# Altium integrated library Altium_WCAP-ASLL (rev24b).IntLib: 98 symbols (part 1 of 2)
Pins are listed as number, name and electrical type; pins without a type are passive.

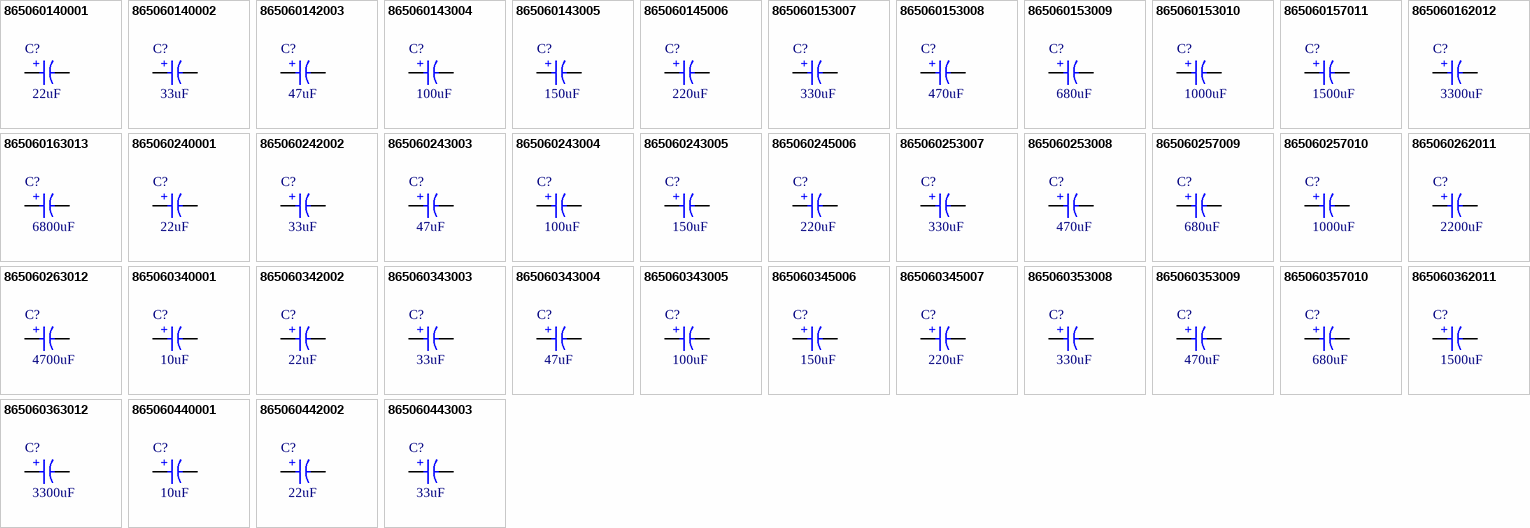
[diagram p0: symbols 865060140001 to 865060443003]

## 865060140001
designator C?, comment 22uF
WCAP-ASLL Aluminum Electrolytic Capacitor, V-Chip, SMT, D4 x H5.5mm, 22uF, 6.3V; Manufacturer Part Number: 865060140001; Manufacturer: Wurth Elektronik; Capacitance Tolerance: +/-20%; Dissipation Factor: 22%; Endurance: 2000h; Leakage Current: 3uA; Ripple Current: 80mA; Technical Reference: ASEB055220M6R3DVCTAB000; Category: Aluminum Electrolytic Capacitors; Match Code: WCAP-ASLL; ComponentLink1Description: Website Link; ComponentLink1URL: https://www.we-online.com/redexpert/article/865060140001?ad; ComponentLink2Description: Datasheet Link; ComponentLink2URL: https://www.we-online.com/redexpert/spec/865060140001?ad; Mount: Surface Mount; Operating Temperature Max: 105°C; Operating Temperature Min: -55°C; Packaging: Tape and Reel; Height: 5.5mm; Diameter: 4mm; Capacitance: 22uF; Rated Voltage (DC): 6.3V
footprint WCAP-ASLL_D4H5.5
simulation model 865060140001_22uF
pins: 1 P, 2 N
text: +

## 865060140002
designator C?, comment 33uF
WCAP-ASLL Aluminum Electrolytic Capacitor, V-Chip, SMT, D4 x H5.5mm, 33uF, 6.3V; Manufacturer Part Number: 865060140002; Manufacturer: Wurth Elektronik; Capacitance Tolerance: +/-20%; Dissipation Factor: 22%; Endurance: 2000h; Leakage Current: 3uA; Ripple Current: 85mA; Technical Reference: ASEB055330M6R3DVCTAB000; Category: Aluminum Electrolytic Capacitors; Match Code: WCAP-ASLL; ComponentLink1Description: Website Link; ComponentLink1URL: https://www.we-online.com/redexpert/article/865060140002?ad; ComponentLink2Description: Datasheet Link; ComponentLink2URL: https://www.we-online.com/redexpert/spec/865060140002?ad; Mount: Surface Mount; Operating Temperature Max: 105°C; Operating Temperature Min: -55°C; Packaging: Tape and Reel; Height: 5.5mm; Diameter: 4mm; Capacitance: 33uF; Rated Voltage (DC): 6.3V
footprint WCAP-ASLL_D4H5.5
simulation model 865060140002_33uF
pins: 1 P, 2 N
text: +

## 865060142003
designator C?, comment 47uF
WCAP-ASLL Aluminum Electrolytic Capacitor, V-Chip, SMT, D5 x H5.5mm, 47uF, 6.3V; Manufacturer Part Number: 865060142003; Manufacturer: Wurth Elektronik; Capacitance Tolerance: +/-20%; Dissipation Factor: 22%; Endurance: 2000h; Leakage Current: 3uA; Ripple Current: 160mA; Technical Reference: ASEC055470M6R3DVCTBB000; Category: Aluminum Electrolytic Capacitors; Match Code: WCAP-ASLL; ComponentLink1Description: Website Link; ComponentLink1URL: https://www.we-online.com/redexpert/article/865060142003?ad; ComponentLink2Description: Datasheet Link; ComponentLink2URL: https://www.we-online.com/redexpert/spec/865060142003?ad; Mount: Surface Mount; Operating Temperature Max: 105°C; Operating Temperature Min: -55°C; Packaging: Tape and Reel; Height: 5.5mm; Diameter: 5mm; Capacitance: 47uF; Rated Voltage (DC): 6.3V
footprint WCAP-ASLL_D5H5.5
simulation model 865060142003_47uF
pins: 1 P, 2 N
text: +

## 865060143004
designator C?, comment 100uF
WCAP-ASLL Aluminum Electrolytic Capacitor, V-Chip, SMT, D6.3 x H5.5mm, 100uF, 6.3V; Manufacturer Part Number: 865060143004; Manufacturer: Wurth Elektronik; Capacitance Tolerance: +/-20%; Dissipation Factor: 22%; Endurance: 2000h; Leakage Current: 6.3uA; Ripple Current: 240mA; Technical Reference: ASED055101M6R3DVCTBB000; Category: Aluminum Electrolytic Capacitors; Match Code: WCAP-ASLL; ComponentLink1Description: Website Link; ComponentLink1URL: https://www.we-online.com/redexpert/article/865060143004?ad; ComponentLink2Description: Datasheet Link; ComponentLink2URL: https://www.we-online.com/redexpert/spec/865060143004?ad; Mount: Surface Mount; Operating Temperature Max: 105°C; Operating Temperature Min: -55°C; Packaging: Tape and Reel; Height: 5.5mm; Diameter: 6.3mm; Capacitance: 100uF; Rated Voltage (DC): 6.3V
footprint WCAP-ASLL_D6.3H5.5
simulation model 865060143004_100uF
pins: 1 P, 2 N
text: +

## 865060143005
designator C?, comment 150uF
WCAP-ASLL Aluminum Electrolytic Capacitor, V-Chip, SMT, D6.3 x H5.5mm, 150uF, 6.3V; Manufacturer Part Number: 865060143005; Manufacturer: Wurth Elektronik; Capacitance Tolerance: +/-20%; Dissipation Factor: 22%; Endurance: 2000h; Leakage Current: 9.45uA; Ripple Current: 240mA; Technical Reference: ASED055151M6R3DVCTBB000; Category: Aluminum Electrolytic Capacitors; Match Code: WCAP-ASLL; ComponentLink1Description: Website Link; ComponentLink1URL: https://www.we-online.com/redexpert/article/865060143005?ad; ComponentLink2Description: Datasheet Link; ComponentLink2URL: https://www.we-online.com/redexpert/spec/865060143005?ad; Mount: Surface Mount; Operating Temperature Max: 105°C; Operating Temperature Min: -55°C; Packaging: Tape and Reel; Height: 5.5mm; Diameter: 6.3mm; Capacitance: 150uF; Rated Voltage (DC): 6.3V
footprint WCAP-ASLL_D6.3H5.5
simulation model 865060143005_150uF
pins: 1 P, 2 N
text: +

## 865060145006
designator C?, comment 220uF
WCAP-ASLL Aluminum Electrolytic Capacitor, V-Chip, SMT, D6.3 x H7.7mm, 220uF, 6.3V; Manufacturer Part Number: 865060145006; Manufacturer: Wurth Elektronik; Capacitance Tolerance: +/-20%; Dissipation Factor: 22%; Endurance: 2000h; Leakage Current: 13.86uA; Ripple Current: 280mA; Technical Reference: ASED077221M6R3DVCTCB000; Category: Aluminum Electrolytic Capacitors; Match Code: WCAP-ASLL; ComponentLink1Description: Website Link; ComponentLink1URL: https://www.we-online.com/redexpert/article/865060145006?ad; ComponentLink2Description: Datasheet Link; ComponentLink2URL: https://www.we-online.com/redexpert/spec/865060145006?ad; Mount: Surface Mount; Operating Temperature Max: 105°C; Operating Temperature Min: -55°C; Packaging: Tape and Reel; Height: 7.7mm; Diameter: 6.3mm; Capacitance: 220uF; Rated Voltage (DC): 6.3V
footprint WCAP-ASLL_D6.3H7.7
simulation model 865060145006_220uF
pins: 1 P, 2 N
text: +

## 865060153007
designator C?, comment 330uF
WCAP-ASLL Aluminum Electrolytic Capacitor, V-Chip, SMT, D8 x H10.5mm, 330uF, 6.3V; Manufacturer Part Number: 865060153007; Manufacturer: Wurth Elektronik; Capacitance Tolerance: +/-20%; Dissipation Factor: 22%; Endurance: 5000h; Leakage Current: 20.79uA; Ripple Current: 450mA; Technical Reference: ASEE105331M6R3DVCTEE000; Category: Aluminum Electrolytic Capacitors; Match Code: WCAP-ASLL; ComponentLink1Description: Website Link; ComponentLink1URL: https://www.we-online.com/redexpert/article/865060153007?ad; ComponentLink2Description: Datasheet Link; ComponentLink2URL: https://www.we-online.com/redexpert/spec/865060153007?ad; Mount: Surface Mount; Operating Temperature Max: 105°C; Operating Temperature Min: -55°C; Packaging: Tape and Reel; Height: 10.5mm; Diameter: 8mm; Capacitance: 330uF; Rated Voltage (DC): 6.3V
footprint WCAP-ASLL_D8H10.5
simulation model 865060153007_330uF
pins: 1 P, 2 N
text: +

## 865060153008
designator C?, comment 470uF
WCAP-ASLL Aluminum Electrolytic Capacitor, V-Chip, SMT, D8 x H10.5mm, 470uF, 6.3V; Manufacturer Part Number: 865060153008; Manufacturer: Wurth Elektronik; Capacitance Tolerance: +/-20%; Dissipation Factor: 22%; Endurance: 5000h; Leakage Current: 29.61uA; Ripple Current: 500mA; Technical Reference: ASEE105471M6R3DVCTEE000; Category: Aluminum Electrolytic Capacitors; Match Code: WCAP-ASLL; ComponentLink1Description: Website Link; ComponentLink1URL: https://www.we-online.com/redexpert/article/865060153008?ad; ComponentLink2Description: Datasheet Link; ComponentLink2URL: https://www.we-online.com/redexpert/spec/865060153008?ad; Mount: Surface Mount; Operating Temperature Max: 105°C; Operating Temperature Min: -55°C; Packaging: Tape and Reel; Height: 10.5mm; Diameter: 8mm; Capacitance: 470uF; Rated Voltage (DC): 6.3V
footprint WCAP-ASLL_D8H10.5
simulation model 865060153008_470uF
pins: 1 P, 2 N
text: +

## 865060153009
designator C?, comment 680uF
WCAP-ASLL Aluminum Electrolytic Capacitor, V-Chip, SMT, D8 x H10.5mm, 680uF, 6.3V; Manufacturer Part Number: 865060153009; Manufacturer: Wurth Elektronik; Capacitance Tolerance: +/-20%; Dissipation Factor: 22%; Endurance: 5000h; Leakage Current: 42.84uA; Ripple Current: 550mA; Technical Reference: ASEE105681M6R3DVCTEE000; Category: Aluminum Electrolytic Capacitors; Match Code: WCAP-ASLL; ComponentLink1Description: Website Link; ComponentLink1URL: https://www.we-online.com/redexpert/article/865060153009?ad; ComponentLink2Description: Datasheet Link; ComponentLink2URL: https://www.we-online.com/redexpert/spec/865060153009?ad; Mount: Surface Mount; Operating Temperature Max: 105°C; Operating Temperature Min: -55°C; Packaging: Tape and Reel; Height: 10.5mm; Diameter: 8mm; Capacitance: 680uF; Rated Voltage (DC): 6.3V
footprint WCAP-ASLL_D8H10.5
simulation model 865060153009_680uF
pins: 1 P, 2 N
text: +

## 865060153010
designator C?, comment 1000uF
WCAP-ASLL Aluminum Electrolytic Capacitor, V-Chip, SMT, D8 x H10.5mm, 1000uF, 6.3V; Manufacturer Part Number: 865060153010; Manufacturer: Wurth Elektronik; Capacitance Tolerance: +/-20%; Dissipation Factor: 22%; Endurance: 5000h; Leakage Current: 63uA; Ripple Current: 550mA; Technical Reference: ASEE105102M6R3DVCTEE000; Category: Aluminum Electrolytic Capacitors; Match Code: WCAP-ASLL; ComponentLink1Description: Website Link; ComponentLink1URL: https://www.we-online.com/redexpert/article/865060153010?ad; ComponentLink2Description: Datasheet Link; ComponentLink2URL: https://www.we-online.com/redexpert/spec/865060153010?ad; Mount: Surface Mount; Operating Temperature Max: 105°C; Operating Temperature Min: -55°C; Packaging: Tape and Reel; Height: 10.5mm; Diameter: 8mm; Capacitance: 1000uF; Rated Voltage (DC): 6.3V
footprint WCAP-ASLL_D8H10.5
simulation model 865060153010_1mF
pins: 1 P, 2 N
text: +

## 865060157011
designator C?, comment 1500uF
WCAP-ASLL Aluminum Electrolytic Capacitor, V-Chip, SMT, D10 x H10.5mm, 1500uF, 6.3V; Manufacturer Part Number: 865060157011; Manufacturer: Wurth Elektronik; Capacitance Tolerance: +/-20%; Dissipation Factor: 22%; Endurance: 5000h; Leakage Current: 94.5uA; Ripple Current: 690mA; Technical Reference: ASEF105152M6R3DVCTEE000; Category: Aluminum Electrolytic Capacitors; Match Code: WCAP-ASLL; ComponentLink1Description: Website Link; ComponentLink1URL: https://www.we-online.com/redexpert/article/865060157011?ad; ComponentLink2Description: Datasheet Link; ComponentLink2URL: https://www.we-online.com/redexpert/spec/865060157011?ad; Mount: Surface Mount; Operating Temperature Max: 105°C; Operating Temperature Min: -55°C; Packaging: Tape and Reel; Height: 10.5mm; Diameter: 10mm; Capacitance: 1500uF; Rated Voltage (DC): 6.3V
footprint WCAP-ASLL_D10H10.5
simulation model 865060157011_1.5mF
pins: 1 P, 2 N
text: +

## 865060162012
designator C?, comment 3300uF
WCAP-ASLL Aluminum Electrolytic Capacitor, V-Chip, SMT, D12.5 x H14mm, 3300uF, 6.3V; Manufacturer Part Number: 865060162012; Manufacturer: Wurth Elektronik; Capacitance Tolerance: +/-20%; Dissipation Factor: 22%; Endurance: 5000h; Leakage Current: 207.9uA; Ripple Current: 1150mA; Technical Reference: ASEH140332M6R3DVCTGE000; Category: Aluminum Electrolytic Capacitors; Match Code: WCAP-ASLL; ComponentLink1Description: Website Link; ComponentLink1URL: https://www.we-online.com/redexpert/article/865060162012?ad; ComponentLink2Description: Datasheet Link; ComponentLink2URL: https://www.we-online.com/redexpert/spec/865060162012?ad; Mount: Surface Mount; Operating Temperature Max: 105°C; Operating Temperature Min: -55°C; Packaging: Tape and Reel; Height: 14mm; Diameter: 12.5mm; Capacitance: 3300uF; Rated Voltage (DC): 6.3V
footprint WCAP-ASLL_D12.5H14
simulation model 865060162012_3.3mF
pins: 1 P, 2 N
text: +

## 865060163013
designator C?, comment 6800uF
WCAP-ASLL Aluminum Electrolytic Capacitor, V-Chip, SMT, D16 x H17mm, 6800uF, 6.3V; Manufacturer Part Number: 865060163013; Manufacturer: Wurth Elektronik; Capacitance Tolerance: +/-20%; Dissipation Factor: 22%; Endurance: 5000h; Leakage Current: 428.4uA; Ripple Current: 1800mA; Technical Reference: ASEK170682M6R3DVCTHE000; Category: Aluminum Electrolytic Capacitors; Match Code: WCAP-ASLL; ComponentLink1Description: Website Link; ComponentLink1URL: https://www.we-online.com/redexpert/article/865060163013?ad; ComponentLink2Description: Datasheet Link; ComponentLink2URL: https://www.we-online.com/redexpert/spec/865060163013?ad; Mount: Surface Mount; Operating Temperature Max: 105°C; Operating Temperature Min: -55°C; Packaging: Tape and Reel; Height: 17mm; Diameter: 16mm; Capacitance: 6800uF; Rated Voltage (DC): 6.3V
footprint WCAP-ASLL_D16H17
simulation model 865060163013_6.8mF
pins: 1 P, 2 N
text: +

## 865060240001
designator C?, comment 22uF
WCAP-ASLL Aluminum Electrolytic Capacitor, V-Chip, SMT, D4 x H5.5mm, 22uF, 10V; Manufacturer Part Number: 865060240001; Manufacturer: Wurth Elektronik; Capacitance Tolerance: +/-20%; Dissipation Factor: 19%; Endurance: 2000h; Leakage Current: 3uA; Ripple Current: 90mA; Technical Reference: ASEB055220M010DVCTAB000; Category: Aluminum Electrolytic Capacitors; Match Code: WCAP-ASLL; ComponentLink1Description: Website Link; ComponentLink1URL: https://www.we-online.com/redexpert/article/865060240001?ad; ComponentLink2Description: Datasheet Link; ComponentLink2URL: https://www.we-online.com/redexpert/spec/865060240001?ad; Mount: Surface Mount; Operating Temperature Max: 105°C; Operating Temperature Min: -55°C; Packaging: Tape and Reel; Height: 5.5mm; Diameter: 4mm; Capacitance: 22uF; Rated Voltage (DC): 10V
footprint WCAP-ASLL_D4H5.5
simulation model 865060240001_22uF
pins: 1 P, 2 N
text: +

## 865060242002
designator C?, comment 33uF
WCAP-ASLL Aluminum Electrolytic Capacitor, V-Chip, SMT, D5 x H5.5mm, 33uF, 10V; Manufacturer Part Number: 865060242002; Manufacturer: Wurth Elektronik; Capacitance Tolerance: +/-20%; Dissipation Factor: 19%; Endurance: 2000h; Leakage Current: 3.3uA; Ripple Current: 160mA; Technical Reference: ASEC055330M010DVCTBB000; Category: Aluminum Electrolytic Capacitors; Match Code: WCAP-ASLL; ComponentLink1Description: Website Link; ComponentLink1URL: https://www.we-online.com/redexpert/article/865060242002?ad; ComponentLink2Description: Datasheet Link; ComponentLink2URL: https://www.we-online.com/redexpert/spec/865060242002?ad; Mount: Surface Mount; Operating Temperature Max: 105°C; Operating Temperature Min: -55°C; Packaging: Tape and Reel; Height: 5.5mm; Diameter: 5mm; Capacitance: 33uF; Rated Voltage (DC): 10V
footprint WCAP-ASLL_D5H5.5
simulation model 865060242002_33uF
pins: 1 P, 2 N
text: +

## 865060243003
designator C?, comment 47uF
WCAP-ASLL Aluminum Electrolytic Capacitor, V-Chip, SMT, D6.3 x H5.5mm, 47uF, 10V; Manufacturer Part Number: 865060243003; Manufacturer: Wurth Elektronik; Capacitance Tolerance: +/-20%; Dissipation Factor: 19%; Endurance: 2000h; Leakage Current: 4.7uA; Ripple Current: 230mA; Technical Reference: ASED055470M010DVCTBB000; Category: Aluminum Electrolytic Capacitors; Match Code: WCAP-ASLL; ComponentLink1Description: Website Link; ComponentLink1URL: https://www.we-online.com/redexpert/article/865060243003?ad; ComponentLink2Description: Datasheet Link; ComponentLink2URL: https://www.we-online.com/redexpert/spec/865060243003?ad; Mount: Surface Mount; Operating Temperature Max: 105°C; Operating Temperature Min: -55°C; Packaging: Tape and Reel; Height: 5.5mm; Diameter: 6.3mm; Capacitance: 47uF; Rated Voltage (DC): 10V
footprint WCAP-ASLL_D6.3H5.5
simulation model 865060243003_47uF
pins: 1 P, 2 N
text: +

## 865060243004
designator C?, comment 100uF
WCAP-ASLL Aluminum Electrolytic Capacitor, V-Chip, SMT, D6.3 x H5.5mm, 100uF, 10V; Manufacturer Part Number: 865060243004; Manufacturer: Wurth Elektronik; Capacitance Tolerance: +/-20%; Dissipation Factor: 19%; Endurance: 2000h; Leakage Current: 10uA; Ripple Current: 240mA; Technical Reference: ASED055101M010DVCTBB000; Category: Aluminum Electrolytic Capacitors; Match Code: WCAP-ASLL; ComponentLink1Description: Website Link; ComponentLink1URL: https://www.we-online.com/redexpert/article/865060243004?ad; ComponentLink2Description: Datasheet Link; ComponentLink2URL: https://www.we-online.com/redexpert/spec/865060243004?ad; Mount: Surface Mount; Operating Temperature Max: 105°C; Operating Temperature Min: -55°C; Packaging: Tape and Reel; Height: 5.5mm; Diameter: 6.3mm; Capacitance: 100uF; Rated Voltage (DC): 10V
footprint WCAP-ASLL_D6.3H5.5
simulation model 865060243004_100uF
pins: 1 P, 2 N
text: +

## 865060243005
designator C?, comment 150uF
WCAP-ASLL Aluminum Electrolytic Capacitor, V-Chip, SMT, D6.3 x H5.5mm, 150uF, 10V; Manufacturer Part Number: 865060243005; Manufacturer: Wurth Elektronik; Capacitance Tolerance: +/-20%; Dissipation Factor: 19%; Endurance: 2000h; Leakage Current: 15uA; Ripple Current: 250mA; Technical Reference: ASED055151M010DVCTBB000; Category: Aluminum Electrolytic Capacitors; Match Code: WCAP-ASLL; ComponentLink1Description: Website Link; ComponentLink1URL: https://www.we-online.com/redexpert/article/865060243005?ad; ComponentLink2Description: Datasheet Link; ComponentLink2URL: https://www.we-online.com/redexpert/spec/865060243005?ad; Mount: Surface Mount; Operating Temperature Max: 105°C; Operating Temperature Min: -55°C; Packaging: Tape and Reel; Height: 5.5mm; Diameter: 6.3mm; Capacitance: 150uF; Rated Voltage (DC): 10V
footprint WCAP-ASLL_D6.3H5.5
simulation model 865060243005_150uF
pins: 1 P, 2 N
text: +

## 865060245006
designator C?, comment 220uF
WCAP-ASLL Aluminum Electrolytic Capacitor, V-Chip, SMT, D6.3 x H7.7mm, 220uF, 10V; Manufacturer Part Number: 865060245006; Manufacturer: Wurth Elektronik; Capacitance Tolerance: +/-20%; Dissipation Factor: 19%; Endurance: 2000h; Leakage Current: 22uA; Ripple Current: 300mA; Technical Reference: ASED077221M010DVCTCB000; Category: Aluminum Electrolytic Capacitors; Match Code: WCAP-ASLL; ComponentLink1Description: Website Link; ComponentLink1URL: https://www.we-online.com/redexpert/article/865060245006?ad; ComponentLink2Description: Datasheet Link; ComponentLink2URL: https://www.we-online.com/redexpert/spec/865060245006?ad; Mount: Surface Mount; Operating Temperature Max: 105°C; Operating Temperature Min: -55°C; Packaging: Tape and Reel; Height: 7.7mm; Diameter: 6.3mm; Capacitance: 220uF; Rated Voltage (DC): 10V
footprint WCAP-ASLL_D6.3H7.7
simulation model 865060245006_220uF
pins: 1 P, 2 N
text: +

## 865060253007
designator C?, comment 330uF
WCAP-ASLL Aluminum Electrolytic Capacitor, V-Chip, SMT, D8 x H10.5mm, 330uF, 10V; Manufacturer Part Number: 865060253007; Manufacturer: Wurth Elektronik; Capacitance Tolerance: +/-20%; Dissipation Factor: 19%; Endurance: 5000h; Leakage Current: 33uA; Ripple Current: 500mA; Technical Reference: ASEE105331M010DVCTEE000; Category: Aluminum Electrolytic Capacitors; Match Code: WCAP-ASLL; ComponentLink1Description: Website Link; ComponentLink1URL: https://www.we-online.com/redexpert/article/865060253007?ad; ComponentLink2Description: Datasheet Link; ComponentLink2URL: https://www.we-online.com/redexpert/spec/865060253007?ad; Mount: Surface Mount; Operating Temperature Max: 105°C; Operating Temperature Min: -55°C; Packaging: Tape and Reel; Height: 10.5mm; Diameter: 8mm; Capacitance: 330uF; Rated Voltage (DC): 10V
footprint WCAP-ASLL_D8H10.5
simulation model 865060253007_330uF
pins: 1 P, 2 N
text: +

## 865060253008
designator C?, comment 470uF
WCAP-ASLL Aluminum Electrolytic Capacitor, V-Chip, SMT, D8 x H10.5mm, 470uF, 10V; Manufacturer Part Number: 865060253008; Manufacturer: Wurth Elektronik; Capacitance Tolerance: +/-20%; Dissipation Factor: 19%; Endurance: 5000h; Leakage Current: 47uA; Ripple Current: 550mA; Technical Reference: ASEE105471M010DVCTEE000; Category: Aluminum Electrolytic Capacitors; Match Code: WCAP-ASLL; ComponentLink1Description: Website Link; ComponentLink1URL: https://www.we-online.com/redexpert/article/865060253008?ad; ComponentLink2Description: Datasheet Link; ComponentLink2URL: https://www.we-online.com/redexpert/spec/865060253008?ad; Mount: Surface Mount; Operating Temperature Max: 105°C; Operating Temperature Min: -55°C; Packaging: Tape and Reel; Height: 10.5mm; Diameter: 8mm; Capacitance: 470uF; Rated Voltage (DC): 10V
footprint WCAP-ASLL_D8H10.5
simulation model 865060253008_470uF
pins: 1 P, 2 N
text: +

## 865060257009
designator C?, comment 680uF
WCAP-ASLL Aluminum Electrolytic Capacitor, V-Chip, SMT, D10 x H10.5mm, 680uF, 10V; Manufacturer Part Number: 865060257009; Manufacturer: Wurth Elektronik; Capacitance Tolerance: +/-20%; Dissipation Factor: 19%; Endurance: 5000h; Leakage Current: 68uA; Ripple Current: 690mA; Technical Reference: ASEF105681M010DVCTEE000; Category: Aluminum Electrolytic Capacitors; Match Code: WCAP-ASLL; ComponentLink1Description: Website Link; ComponentLink1URL: https://www.we-online.com/redexpert/article/865060257009?ad; ComponentLink2Description: Datasheet Link; ComponentLink2URL: https://www.we-online.com/redexpert/spec/865060257009?ad; Mount: Surface Mount; Operating Temperature Max: 105°C; Operating Temperature Min: -55°C; Packaging: Tape and Reel; Height: 10.5mm; Diameter: 10mm; Capacitance: 680uF; Rated Voltage (DC): 10V
footprint WCAP-ASLL_D10H10.5
simulation model 865060257009_680uF
pins: 1 P, 2 N
text: +

## 865060257010
designator C?, comment 1000uF
WCAP-ASLL Aluminum Electrolytic Capacitor, V-Chip, SMT, D10 x H10.5mm, 1000uF, 10V; Manufacturer Part Number: 865060257010; Manufacturer: Wurth Elektronik; Capacitance Tolerance: +/-20%; Dissipation Factor: 19%; Endurance: 5000h; Leakage Current: 100uA; Ripple Current: 690mA; Technical Reference: ASEF105102M010DVCTEE000; Category: Aluminum Electrolytic Capacitors; Match Code: WCAP-ASLL; ComponentLink1Description: Website Link; ComponentLink1URL: https://www.we-online.com/redexpert/article/865060257010?ad; ComponentLink2Description: Datasheet Link; ComponentLink2URL: https://www.we-online.com/redexpert/spec/865060257010?ad; Mount: Surface Mount; Operating Temperature Max: 105°C; Operating Temperature Min: -55°C; Packaging: Tape and Reel; Height: 10.5mm; Diameter: 10mm; Capacitance: 1000uF; Rated Voltage (DC): 10V
footprint WCAP-ASLL_D10H10.5
simulation model 865060257010_1mF
pins: 1 P, 2 N
text: +

## 865060262011
designator C?, comment 2200uF
WCAP-ASLL Aluminum Electrolytic Capacitor, V-Chip, SMT, D12.5 x H14mm, 2200uF, 10V; Manufacturer Part Number: 865060262011; Manufacturer: Wurth Elektronik; Capacitance Tolerance: +/-20%; Dissipation Factor: 19%; Endurance: 5000h; Leakage Current: 220uA; Ripple Current: 1150mA; Technical Reference: ASEH140222M010DVCTGE000; Category: Aluminum Electrolytic Capacitors; Match Code: WCAP-ASLL; ComponentLink1Description: Website Link; ComponentLink1URL: https://www.we-online.com/redexpert/article/865060262011?ad; ComponentLink2Description: Datasheet Link; ComponentLink2URL: https://www.we-online.com/redexpert/spec/865060262011?ad; Mount: Surface Mount; Operating Temperature Max: 105°C; Operating Temperature Min: -55°C; Packaging: Tape and Reel; Height: 14mm; Diameter: 12.5mm; Capacitance: 2200uF; Rated Voltage (DC): 10V
footprint WCAP-ASLL_D12.5H14
simulation model 865060262011_2.2mF
pins: 1 P, 2 N
text: +

## 865060263012
designator C?, comment 4700uF
WCAP-ASLL Aluminum Electrolytic Capacitor, V-Chip, SMT, D16 x H17mm, 4700uF, 10V; Manufacturer Part Number: 865060263012; Manufacturer: Wurth Elektronik; Capacitance Tolerance: +/-20%; Dissipation Factor: 19%; Endurance: 5000h; Leakage Current: 470uA; Ripple Current: 1800mA; Technical Reference: ASEK170472M010DVCTHE000; Category: Aluminum Electrolytic Capacitors; Match Code: WCAP-ASLL; ComponentLink1Description: Website Link; ComponentLink1URL: https://www.we-online.com/redexpert/article/865060263012?ad; ComponentLink2Description: Datasheet Link; ComponentLink2URL: https://www.we-online.com/redexpert/spec/865060263012?ad; Mount: Surface Mount; Operating Temperature Max: 105°C; Operating Temperature Min: -55°C; Packaging: Tape and Reel; Height: 17mm; Diameter: 16mm; Capacitance: 4700uF; Rated Voltage (DC): 10V
footprint WCAP-ASLL_D16H17
simulation model 865060263012_4.7mF
pins: 1 P, 2 N
text: +

## 865060340001
designator C?, comment 10uF
WCAP-ASLL Aluminum Electrolytic Capacitor, V-Chip, SMT, D4 x H5.5mm, 10uF, 16V; Manufacturer Part Number: 865060340001; Manufacturer: Wurth Elektronik; Capacitance Tolerance: +/-20%; Dissipation Factor: 16%; Endurance: 2000h; Leakage Current: 3uA; Ripple Current: 90mA; Technical Reference: ASEB055100M016DVCTAB000; Category: Aluminum Electrolytic Capacitors; Match Code: WCAP-ASLL; ComponentLink1Description: Website Link; ComponentLink1URL: https://www.we-online.com/redexpert/article/865060340001?ad; ComponentLink2Description: Datasheet Link; ComponentLink2URL: https://www.we-online.com/redexpert/spec/865060340001?ad; Mount: Surface Mount; Operating Temperature Max: 105°C; Operating Temperature Min: -55°C; Packaging: Tape and Reel; Height: 5.5mm; Diameter: 4mm; Capacitance: 10uF; Rated Voltage (DC): 16V
footprint WCAP-ASLL_D4H5.5
simulation model 865060340001_10uF
pins: 1 P, 2 N
text: +

## 865060342002
designator C?, comment 22uF
WCAP-ASLL Aluminum Electrolytic Capacitor, V-Chip, SMT, D5 x H5.5mm, 22uF, 16V; Manufacturer Part Number: 865060342002; Manufacturer: Wurth Elektronik; Capacitance Tolerance: +/-20%; Dissipation Factor: 16%; Endurance: 2000h; Leakage Current: 3.52uA; Ripple Current: 150mA; Technical Reference: ASEC055220M016DVCTBB000; Category: Aluminum Electrolytic Capacitors; Match Code: WCAP-ASLL; ComponentLink1Description: Website Link; ComponentLink1URL: https://www.we-online.com/redexpert/article/865060342002?ad; ComponentLink2Description: Datasheet Link; ComponentLink2URL: https://www.we-online.com/redexpert/spec/865060342002?ad; Mount: Surface Mount; Operating Temperature Max: 105°C; Operating Temperature Min: -55°C; Packaging: Tape and Reel; Height: 5.5mm; Diameter: 5mm; Capacitance: 22uF; Rated Voltage (DC): 16V
footprint WCAP-ASLL_D5H5.5
simulation model 865060342002_22uF
pins: 1 P, 2 N
text: +

## 865060343003
designator C?, comment 33uF
WCAP-ASLL Aluminum Electrolytic Capacitor, V-Chip, SMT, D6.3 x H5.5mm, 33uF, 16V; Manufacturer Part Number: 865060343003; Manufacturer: Wurth Elektronik; Capacitance Tolerance: +/-20%; Dissipation Factor: 16%; Endurance: 2000h; Leakage Current: 5.28uA; Ripple Current: 230mA; Technical Reference: ASED055330M016DVCTBB000; Category: Aluminum Electrolytic Capacitors; Match Code: WCAP-ASLL; ComponentLink1Description: Website Link; ComponentLink1URL: https://www.we-online.com/redexpert/article/865060343003?ad; ComponentLink2Description: Datasheet Link; ComponentLink2URL: https://www.we-online.com/redexpert/spec/865060343003?ad; Mount: Surface Mount; Operating Temperature Max: 105°C; Operating Temperature Min: -55°C; Packaging: Tape and Reel; Height: 5.5mm; Diameter: 6.3mm; Capacitance: 33uF; Rated Voltage (DC): 16V
footprint WCAP-ASLL_D6.3H5.5
simulation model 865060343003_33uF
pins: 1 P, 2 N
text: +

## 865060343004
designator C?, comment 47uF
WCAP-ASLL Aluminum Electrolytic Capacitor, V-Chip, SMT, D6.3 x H5.5mm, 47uF, 16V; Manufacturer Part Number: 865060343004; Manufacturer: Wurth Elektronik; Capacitance Tolerance: +/-20%; Dissipation Factor: 16%; Endurance: 2000h; Leakage Current: 7.52uA; Ripple Current: 230mA; Technical Reference: ASED055470M016DVCTBB000; Category: Aluminum Electrolytic Capacitors; Match Code: WCAP-ASLL; ComponentLink1Description: Website Link; ComponentLink1URL: https://www.we-online.com/redexpert/article/865060343004?ad; ComponentLink2Description: Datasheet Link; ComponentLink2URL: https://www.we-online.com/redexpert/spec/865060343004?ad; Mount: Surface Mount; Operating Temperature Max: 105°C; Operating Temperature Min: -55°C; Packaging: Tape and Reel; Height: 5.5mm; Diameter: 6.3mm; Capacitance: 47uF; Rated Voltage (DC): 16V
footprint WCAP-ASLL_D6.3H5.5
simulation model 865060343004_47uF
pins: 1 P, 2 N
text: +

## 865060343005
designator C?, comment 100uF
WCAP-ASLL Aluminum Electrolytic Capacitor, V-Chip, SMT, D6.3 x H5.5mm, 100uF, 16V; Manufacturer Part Number: 865060343005; Manufacturer: Wurth Elektronik; Capacitance Tolerance: +/-20%; Dissipation Factor: 16%; Endurance: 2000h; Leakage Current: 16uA; Ripple Current: 255mA; Technical Reference: ASED055101M016DVCTBB000; Category: Aluminum Electrolytic Capacitors; Match Code: WCAP-ASLL; ComponentLink1Description: Website Link; ComponentLink1URL: https://www.we-online.com/redexpert/article/865060343005?ad; ComponentLink2Description: Datasheet Link; ComponentLink2URL: https://www.we-online.com/redexpert/spec/865060343005?ad; Mount: Surface Mount; Operating Temperature Max: 105°C; Operating Temperature Min: -55°C; Packaging: Tape and Reel; Height: 5.5mm; Diameter: 6.3mm; Capacitance: 100uF; Rated Voltage (DC): 16V
footprint WCAP-ASLL_D6.3H5.5
simulation model 865060343005_100uF
pins: 1 P, 2 N
text: +

## 865060345006
designator C?, comment 150uF
WCAP-ASLL Aluminum Electrolytic Capacitor, V-Chip, SMT, D6.3 x H7.7mm, 150uF, 16V; Manufacturer Part Number: 865060345006; Manufacturer: Wurth Elektronik; Capacitance Tolerance: +/-20%; Dissipation Factor: 16%; Endurance: 2000h; Leakage Current: 24uA; Ripple Current: 280mA; Technical Reference: ASED077151M016DVCTCB000; Category: Aluminum Electrolytic Capacitors; Match Code: WCAP-ASLL; ComponentLink1Description: Website Link; ComponentLink1URL: https://www.we-online.com/redexpert/article/865060345006?ad; ComponentLink2Description: Datasheet Link; ComponentLink2URL: https://www.we-online.com/redexpert/spec/865060345006?ad; Mount: Surface Mount; Operating Temperature Max: 105°C; Operating Temperature Min: -55°C; Packaging: Tape and Reel; Height: 7.7mm; Diameter: 6.3mm; Capacitance: 150uF; Rated Voltage (DC): 16V
footprint WCAP-ASLL_D6.3H7.7
simulation model 865060345006_150uF
pins: 1 P, 2 N
text: +

## 865060345007
designator C?, comment 220uF
WCAP-ASLL Aluminum Electrolytic Capacitor, V-Chip, SMT, D6.3 x H7.7mm, 220uF, 16V; Manufacturer Part Number: 865060345007; Manufacturer: Wurth Elektronik; Capacitance Tolerance: +/-20%; Dissipation Factor: 16%; Endurance: 2000h; Leakage Current: 35.2uA; Ripple Current: 280mA; Technical Reference: ASED077221M016DVCTCB000; Category: Aluminum Electrolytic Capacitors; Match Code: WCAP-ASLL; ComponentLink1Description: Website Link; ComponentLink1URL: https://www.we-online.com/redexpert/article/865060345007?ad; ComponentLink2Description: Datasheet Link; ComponentLink2URL: https://www.we-online.com/redexpert/spec/865060345007?ad; Mount: Surface Mount; Operating Temperature Max: 105°C; Operating Temperature Min: -55°C; Packaging: Tape and Reel; Height: 7.7mm; Diameter: 6.3mm; Capacitance: 220uF; Rated Voltage (DC): 16V
footprint WCAP-ASLL_D6.3H7.7
simulation model 865060345007_220uF
pins: 1 P, 2 N
text: +

## 865060353008
designator C?, comment 330uF
WCAP-ASLL Aluminum Electrolytic Capacitor, V-Chip, SMT, D8 x H10.5mm, 330uF, 16V; Manufacturer Part Number: 865060353008; Manufacturer: Wurth Elektronik; Capacitance Tolerance: +/-20%; Dissipation Factor: 16%; Endurance: 5000h; Leakage Current: 52.8uA; Ripple Current: 550mA; Technical Reference: ASEE105331M016DVCTEE000; Category: Aluminum Electrolytic Capacitors; Match Code: WCAP-ASLL; ComponentLink1Description: Website Link; ComponentLink1URL: https://www.we-online.com/redexpert/article/865060353008?ad; ComponentLink2Description: Datasheet Link; ComponentLink2URL: https://www.we-online.com/redexpert/spec/865060353008?ad; Mount: Surface Mount; Operating Temperature Max: 105°C; Operating Temperature Min: -55°C; Packaging: Tape and Reel; Height: 10.5mm; Diameter: 8mm; Capacitance: 330uF; Rated Voltage (DC): 16V
footprint WCAP-ASLL_D8H10.5
simulation model 865060353008_330uF
pins: 1 P, 2 N
text: +

## 865060353009
designator C?, comment 470uF
WCAP-ASLL Aluminum Electrolytic Capacitor, V-Chip, SMT, D8 x H10.5mm, 470uF, 16V; Manufacturer Part Number: 865060353009; Manufacturer: Wurth Elektronik; Capacitance Tolerance: +/-20%; Dissipation Factor: 16%; Endurance: 5000h; Leakage Current: 75.2uA; Ripple Current: 600mA; Technical Reference: ASEE105471M016DVCTEE000; Category: Aluminum Electrolytic Capacitors; Match Code: WCAP-ASLL; ComponentLink1Description: Website Link; ComponentLink1URL: https://www.we-online.com/redexpert/article/865060353009?ad; ComponentLink2Description: Datasheet Link; ComponentLink2URL: https://www.we-online.com/redexpert/spec/865060353009?ad; Mount: Surface Mount; Operating Temperature Max: 105°C; Operating Temperature Min: -55°C; Packaging: Tape and Reel; Height: 10.5mm; Diameter: 8mm; Capacitance: 470uF; Rated Voltage (DC): 16V
footprint WCAP-ASLL_D8H10.5
simulation model 865060353009_470uF
pins: 1 P, 2 N
text: +

## 865060357010
designator C?, comment 680uF
WCAP-ASLL Aluminum Electrolytic Capacitor, V-Chip, SMT, D10 x H10.5mm, 680uF, 16V; Manufacturer Part Number: 865060357010; Manufacturer: Wurth Elektronik; Capacitance Tolerance: +/-20%; Dissipation Factor: 16%; Endurance: 5000h; Leakage Current: 108.8uA; Ripple Current: 750mA; Technical Reference: ASEF105681M016DVCTEE000; Category: Aluminum Electrolytic Capacitors; Match Code: WCAP-ASLL; ComponentLink1Description: Website Link; ComponentLink1URL: https://www.we-online.com/redexpert/article/865060357010?ad; ComponentLink2Description: Datasheet Link; ComponentLink2URL: https://www.we-online.com/redexpert/spec/865060357010?ad; Mount: Surface Mount; Operating Temperature Max: 105°C; Operating Temperature Min: -55°C; Packaging: Tape and Reel; Height: 10.5mm; Diameter: 10mm; Capacitance: 680uF; Rated Voltage (DC): 16V
footprint WCAP-ASLL_D10H10.5
simulation model 865060357010_680uF
pins: 1 P, 2 N
text: +

## 865060362011
designator C?, comment 1500uF
WCAP-ASLL Aluminum Electrolytic Capacitor, V-Chip, SMT, D12.5 x H14mm, 1500uF, 16V; Manufacturer Part Number: 865060362011; Manufacturer: Wurth Elektronik; Capacitance Tolerance: +/-20%; Dissipation Factor: 16%; Endurance: 5000h; Leakage Current: 240uA; Ripple Current: 1150mA; Technical Reference: ASEH140152M016DVCTGE000; Category: Aluminum Electrolytic Capacitors; Match Code: WCAP-ASLL; ComponentLink1Description: Website Link; ComponentLink1URL: https://www.we-online.com/redexpert/article/865060362011?ad; ComponentLink2Description: Datasheet Link; ComponentLink2URL: https://www.we-online.com/redexpert/spec/865060362011?ad; Mount: Surface Mount; Operating Temperature Max: 105°C; Operating Temperature Min: -55°C; Packaging: Tape and Reel; Height: 14mm; Diameter: 12.5mm; Capacitance: 1500uF; Rated Voltage (DC): 16V
footprint WCAP-ASLL_D12.5H14
simulation model 865060362011_1.5mF
pins: 1 P, 2 N
text: +

## 865060363012
designator C?, comment 3300uF
WCAP-ASLL Aluminum Electrolytic Capacitor, V-Chip, SMT, D16 x H17mm, 3300uF, 16V; Manufacturer Part Number: 865060363012; Manufacturer: Wurth Elektronik; Capacitance Tolerance: +/-20%; Dissipation Factor: 16%; Endurance: 5000h; Leakage Current: 528uA; Ripple Current: 1800mA; Technical Reference: ASEK170332M016DVCTHE000; Category: Aluminum Electrolytic Capacitors; Match Code: WCAP-ASLL; ComponentLink1Description: Website Link; ComponentLink1URL: https://www.we-online.com/redexpert/article/865060363012?ad; ComponentLink2Description: Datasheet Link; ComponentLink2URL: https://www.we-online.com/redexpert/spec/865060363012?ad; Mount: Surface Mount; Operating Temperature Max: 105°C; Operating Temperature Min: -55°C; Packaging: Tape and Reel; Height: 17mm; Diameter: 16mm; Capacitance: 3300uF; Rated Voltage (DC): 16V
footprint WCAP-ASLL_D16H17
simulation model 865060363012_3.3mF
pins: 1 P, 2 N
text: +

## 865060440001
designator C?, comment 10uF
WCAP-ASLL Aluminum Electrolytic Capacitor, V-Chip, SMT, D4 x H5.5mm, 10uF, 25V; Manufacturer Part Number: 865060440001; Manufacturer: Wurth Elektronik; Capacitance Tolerance: +/-20%; Dissipation Factor: 14%; Endurance: 2000h; Leakage Current: 3uA; Ripple Current: 90mA; Technical Reference: ASEB055100M025DVCTAB000; Category: Aluminum Electrolytic Capacitors; Match Code: WCAP-ASLL; ComponentLink1Description: Website Link; ComponentLink1URL: https://www.we-online.com/redexpert/article/865060440001?ad; ComponentLink2Description: Datasheet Link; ComponentLink2URL: https://www.we-online.com/redexpert/spec/865060440001?ad; Mount: Surface Mount; Operating Temperature Max: 105°C; Operating Temperature Min: -55°C; Packaging: Tape and Reel; Height: 5.5mm; Diameter: 4mm; Capacitance: 10uF; Rated Voltage (DC): 25V
footprint WCAP-ASLL_D4H5.5
simulation model 865060440001_10uF
pins: 1 P, 2 N
text: +

## 865060442002
designator C?, comment 22uF
WCAP-ASLL Aluminum Electrolytic Capacitor, V-Chip, SMT, D5 x H5.5mm, 22uF, 25V; Manufacturer Part Number: 865060442002; Manufacturer: Wurth Elektronik; Capacitance Tolerance: +/-20%; Dissipation Factor: 14%; Endurance: 2000h; Leakage Current: 5.5uA; Ripple Current: 150mA; Technical Reference: ASEC055220M025DVCTBB000; Category: Aluminum Electrolytic Capacitors; Match Code: WCAP-ASLL; ComponentLink1Description: Website Link; ComponentLink1URL: https://www.we-online.com/redexpert/article/865060442002?ad; ComponentLink2Description: Datasheet Link; ComponentLink2URL: https://www.we-online.com/redexpert/spec/865060442002?ad; Mount: Surface Mount; Operating Temperature Max: 105°C; Operating Temperature Min: -55°C; Packaging: Tape and Reel; Height: 5.5mm; Diameter: 5mm; Capacitance: 22uF; Rated Voltage (DC): 25V
footprint WCAP-ASLL_D5H5.5
simulation model 865060442002_22uF
pins: 1 P, 2 N
text: +

## 865060443003
designator C?, comment 33uF
WCAP-ASLL Aluminum Electrolytic Capacitor, V-Chip, SMT, D6.3 x H5.5mm, 33uF, 25V; Manufacturer Part Number: 865060443003; Manufacturer: Wurth Elektronik; Capacitance Tolerance: +/-20%; Dissipation Factor: 14%; Endurance: 2000h; Leakage Current: 8.25uA; Ripple Current: 230mA; Technical Reference: ASED055330M025DVCTBB000; Category: Aluminum Electrolytic Capacitors; Match Code: WCAP-ASLL; ComponentLink1Description: Website Link; ComponentLink1URL: https://www.we-online.com/redexpert/article/865060443003?ad; ComponentLink2Description: Datasheet Link; ComponentLink2URL: https://www.we-online.com/redexpert/spec/865060443003?ad; Mount: Surface Mount; Operating Temperature Max: 105°C; Operating Temperature Min: -55°C; Packaging: Tape and Reel; Height: 5.5mm; Diameter: 6.3mm; Capacitance: 33uF; Rated Voltage (DC): 25V
footprint WCAP-ASLL_D6.3H5.5
simulation model 865060443003_33uF
pins: 1 P, 2 N
text: +

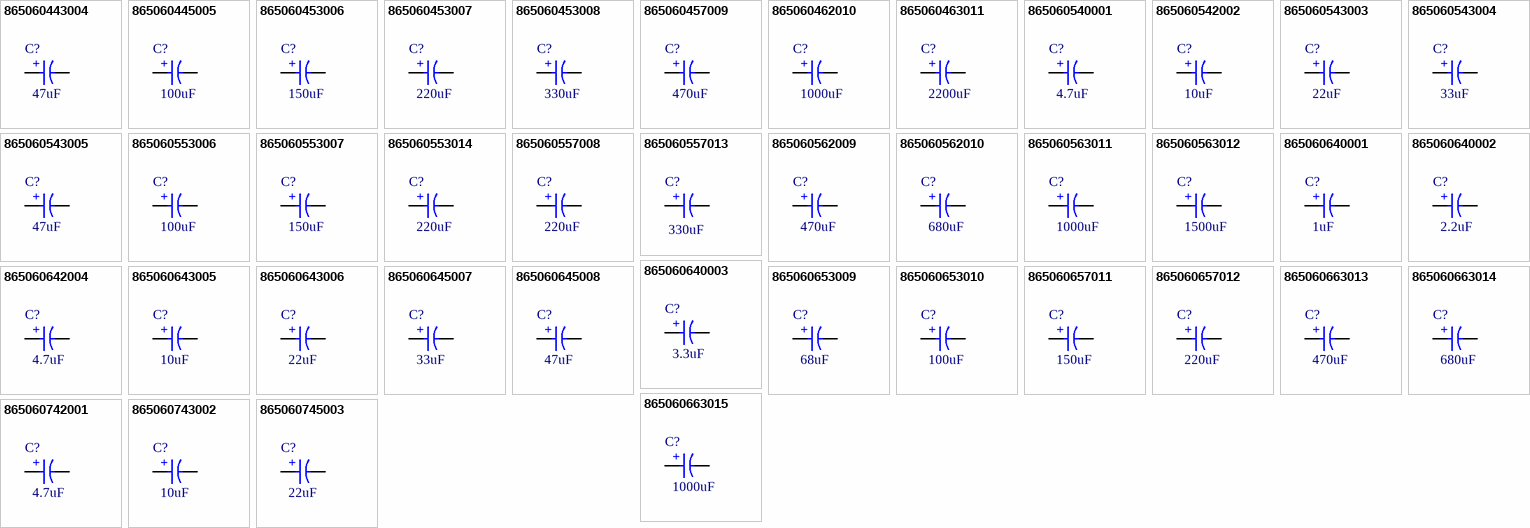
[diagram p1: symbols 865060443004 to 865060745003]

## 865060443004
designator C?, comment 47uF
WCAP-ASLL Aluminum Electrolytic Capacitor, V-Chip, SMT, D6.3 x H5.5mm, 47uF, 25V; Manufacturer Part Number: 865060443004; Manufacturer: Wurth Elektronik; Capacitance Tolerance: +/-20%; Dissipation Factor: 14%; Endurance: 2000h; Leakage Current: 11.75uA; Ripple Current: 230mA; Technical Reference: ASED055470M025DVCTBB000; Category: Aluminum Electrolytic Capacitors; Match Code: WCAP-ASLL; ComponentLink1Description: Website Link; ComponentLink1URL: https://www.we-online.com/redexpert/article/865060443004?ad; ComponentLink2Description: Datasheet Link; ComponentLink2URL: https://www.we-online.com/redexpert/spec/865060443004?ad; Mount: Surface Mount; Operating Temperature Max: 105°C; Operating Temperature Min: -55°C; Packaging: Tape and Reel; Height: 5.5mm; Diameter: 6.3mm; Capacitance: 47uF; Rated Voltage (DC): 25V
footprint WCAP-ASLL_D6.3H5.5
simulation model 865060443004_47uF
pins: 1 P, 2 N
text: +

## 865060445005
designator C?, comment 100uF
WCAP-ASLL Aluminum Electrolytic Capacitor, V-Chip, SMT, D6.3 x H7.7mm, 100uF, 25V; Manufacturer Part Number: 865060445005; Manufacturer: Wurth Elektronik; Capacitance Tolerance: +/-20%; Dissipation Factor: 14%; Endurance: 2000h; Leakage Current: 25uA; Ripple Current: 300mA; Technical Reference: ASED077101M025DVCTCB000; Category: Aluminum Electrolytic Capacitors; Match Code: WCAP-ASLL; ComponentLink1Description: Website Link; ComponentLink1URL: https://www.we-online.com/redexpert/article/865060445005?ad; ComponentLink2Description: Datasheet Link; ComponentLink2URL: https://www.we-online.com/redexpert/spec/865060445005?ad; Mount: Surface Mount; Operating Temperature Max: 105°C; Operating Temperature Min: -55°C; Packaging: Tape and Reel; Height: 7.7mm; Diameter: 6.3mm; Capacitance: 100uF; Rated Voltage (DC): 25V
footprint WCAP-ASLL_D6.3H7.7
simulation model 865060445005_100uF
pins: 1 P, 2 N
text: +

## 865060453006
designator C?, comment 150uF
WCAP-ASLL Aluminum Electrolytic Capacitor, V-Chip, SMT, D8 x H10.5mm, 150uF, 25V; Manufacturer Part Number: 865060453006; Manufacturer: Wurth Elektronik; Capacitance Tolerance: +/-20%; Dissipation Factor: 14%; Endurance: 5000h; Leakage Current: 37.5uA; Ripple Current: 500mA; Technical Reference: ASEE105151M025DVCTEE000; Category: Aluminum Electrolytic Capacitors; Match Code: WCAP-ASLL; ComponentLink1Description: Website Link; ComponentLink1URL: https://www.we-online.com/redexpert/article/865060453006?ad; ComponentLink2Description: Datasheet Link; ComponentLink2URL: https://www.we-online.com/redexpert/spec/865060453006?ad; Mount: Surface Mount; Operating Temperature Max: 105°C; Operating Temperature Min: -55°C; Packaging: Tape and Reel; Height: 10.5mm; Diameter: 8mm; Capacitance: 150uF; Rated Voltage (DC): 25V
footprint WCAP-ASLL_D8H10.5
simulation model 865060453006_150uF
pins: 1 P, 2 N
text: +

## 865060453007
designator C?, comment 220uF
WCAP-ASLL Aluminum Electrolytic Capacitor, V-Chip, SMT, D8 x H10.5mm, 220uF, 25V; Manufacturer Part Number: 865060453007; Manufacturer: Wurth Elektronik; Capacitance Tolerance: +/-20%; Dissipation Factor: 14%; Endurance: 5000h; Leakage Current: 55uA; Ripple Current: 550mA; Technical Reference: ASEE105221M025DVCTEE000; Category: Aluminum Electrolytic Capacitors; Match Code: WCAP-ASLL; ComponentLink1Description: Website Link; ComponentLink1URL: https://www.we-online.com/redexpert/article/865060453007?ad; ComponentLink2Description: Datasheet Link; ComponentLink2URL: https://www.we-online.com/redexpert/spec/865060453007?ad; Mount: Surface Mount; Operating Temperature Max: 105°C; Operating Temperature Min: -55°C; Packaging: Tape and Reel; Height: 10.5mm; Diameter: 8mm; Capacitance: 220uF; Rated Voltage (DC): 25V
footprint WCAP-ASLL_D8H10.5
simulation model 865060453007_220uF
pins: 1 P, 2 N
text: +

## 865060453008
designator C?, comment 330uF
WCAP-ASLL Aluminum Electrolytic Capacitor, V-Chip, SMT, D8 x H10.5mm, 330uF, 25V; Manufacturer Part Number: 865060453008; Manufacturer: Wurth Elektronik; Capacitance Tolerance: +/-20%; Dissipation Factor: 14%; Endurance: 5000h; Leakage Current: 82.5uA; Ripple Current: 600mA; Technical Reference: ASEE105331M025DVCTEE000; Category: Aluminum Electrolytic Capacitors; Match Code: WCAP-ASLL; ComponentLink1Description: Website Link; ComponentLink1URL: https://www.we-online.com/redexpert/article/865060453008?ad; ComponentLink2Description: Datasheet Link; ComponentLink2URL: https://www.we-online.com/redexpert/spec/865060453008?ad; Mount: Surface Mount; Operating Temperature Max: 105°C; Operating Temperature Min: -55°C; Packaging: Tape and Reel; Height: 10.5mm; Diameter: 8mm; Capacitance: 330uF; Rated Voltage (DC): 25V
footprint WCAP-ASLL_D8H10.5
simulation model 865060453008_330uF
pins: 1 P, 2 N
text: +

## 865060457009
designator C?, comment 470uF
WCAP-ASLL Aluminum Electrolytic Capacitor, V-Chip, SMT, D10 x H10.5mm, 470uF, 25V; Manufacturer Part Number: 865060457009; Manufacturer: Wurth Elektronik; Capacitance Tolerance: +/-20%; Dissipation Factor: 14%; Endurance: 5000h; Leakage Current: 117.5uA; Ripple Current: 670mA; Technical Reference: ASEF105471M025DVCTEE000; Category: Aluminum Electrolytic Capacitors; Match Code: WCAP-ASLL; ComponentLink1Description: Website Link; ComponentLink1URL: https://www.we-online.com/redexpert/article/865060457009?ad; ComponentLink2Description: Datasheet Link; ComponentLink2URL: https://www.we-online.com/redexpert/spec/865060457009?ad; Mount: Surface Mount; Operating Temperature Max: 105°C; Operating Temperature Min: -55°C; Packaging: Tape and Reel; Height: 10.5mm; Diameter: 10mm; Capacitance: 470uF; Rated Voltage (DC): 25V
footprint WCAP-ASLL_D10H10.5
simulation model 865060457009_470uF
pins: 1 P, 2 N
text: +

## 865060462010
designator C?, comment 1000uF
WCAP-ASLL Aluminum Electrolytic Capacitor, V-Chip, SMT, D12.5 x H14mm, 1000uF, 25V; Manufacturer Part Number: 865060462010; Manufacturer: Wurth Elektronik; Capacitance Tolerance: +/-20%; Dissipation Factor: 14%; Endurance: 5000h; Leakage Current: 250uA; Ripple Current: 1150mA; Technical Reference: ASEH140102M025DVCTGE000; Category: Aluminum Electrolytic Capacitors; Match Code: WCAP-ASLL; ComponentLink1Description: Website Link; ComponentLink1URL: https://www.we-online.com/redexpert/article/865060462010?ad; ComponentLink2Description: Datasheet Link; ComponentLink2URL: https://www.we-online.com/redexpert/spec/865060462010?ad; Mount: Surface Mount; Operating Temperature Max: 105°C; Operating Temperature Min: -55°C; Packaging: Tape and Reel; Height: 14mm; Diameter: 12.5mm; Capacitance: 1000uF; Rated Voltage (DC): 25V
footprint WCAP-ASLL_D12.5H14
simulation model 865060462010_1mF
pins: 1 P, 2 N
text: +

## 865060463011
designator C?, comment 2200uF
WCAP-ASLL Aluminum Electrolytic Capacitor, V-Chip, SMT, D16 x H17mm, 2200uF, 25V; Manufacturer Part Number: 865060463011; Manufacturer: Wurth Elektronik; Capacitance Tolerance: +/-20%; Dissipation Factor: 14%; Endurance: 5000h; Leakage Current: 550uA; Ripple Current: 1800mA; Technical Reference: ASEK170222M025DVCTHE000; Category: Aluminum Electrolytic Capacitors; Match Code: WCAP-ASLL; ComponentLink1Description: Website Link; ComponentLink1URL: https://www.we-online.com/redexpert/article/865060463011?ad; ComponentLink2Description: Datasheet Link; ComponentLink2URL: https://www.we-online.com/redexpert/spec/865060463011?ad; Mount: Surface Mount; Operating Temperature Max: 105°C; Operating Temperature Min: -55°C; Packaging: Tape and Reel; Height: 17mm; Diameter: 16mm; Capacitance: 2200uF; Rated Voltage (DC): 25V
footprint WCAP-ASLL_D16H17
simulation model 865060463011_2.2mF
pins: 1 P, 2 N
text: +

## 865060540001
designator C?, comment 4.7uF
WCAP-ASLL Aluminum Electrolytic Capacitor, V-Chip, SMT, D4 x H5.5mm, 4.7uF, 35V; Manufacturer Part Number: 865060540001; Manufacturer: Wurth Elektronik; Capacitance Tolerance: +/-20%; Dissipation Factor: 14%; Endurance: 2000h; Leakage Current: 3uA; Ripple Current: 90mA; Technical Reference: ASEB0554R7M035DVCTAB000; Category: Aluminum Electrolytic Capacitors; Match Code: WCAP-ASLL; ComponentLink1Description: Website Link; ComponentLink1URL: https://www.we-online.com/redexpert/article/865060540001?ad; ComponentLink2Description: Datasheet Link; ComponentLink2URL: https://www.we-online.com/redexpert/spec/865060540001?ad; Mount: Surface Mount; Operating Temperature Max: 105°C; Operating Temperature Min: -55°C; Packaging: Tape and Reel; Height: 5.5mm; Diameter: 4mm; Capacitance: 4.7uF; Rated Voltage (DC): 35V
footprint WCAP-ASLL_D4H5.5
simulation model 865060540001_4.7uF
pins: 1 P, 2 N
text: +

## 865060542002
designator C?, comment 10uF
WCAP-ASLL Aluminum Electrolytic Capacitor, V-Chip, SMT, D5 x H5.5mm, 10uF, 35V; Manufacturer Part Number: 865060542002; Manufacturer: Wurth Elektronik; Capacitance Tolerance: +/-20%; Dissipation Factor: 14%; Endurance: 2000h; Leakage Current: 3.5uA; Ripple Current: 150mA; Technical Reference: ASEC055100M035DVCTBB000; Category: Aluminum Electrolytic Capacitors; Match Code: WCAP-ASLL; ComponentLink1Description: Website Link; ComponentLink1URL: https://www.we-online.com/redexpert/article/865060542002?ad; ComponentLink2Description: Datasheet Link; ComponentLink2URL: https://www.we-online.com/redexpert/spec/865060542002?ad; Mount: Surface Mount; Operating Temperature Max: 105°C; Operating Temperature Min: -55°C; Packaging: Tape and Reel; Height: 5.5mm; Diameter: 5mm; Capacitance: 10uF; Rated Voltage (DC): 35V
footprint WCAP-ASLL_D5H5.5
simulation model 865060542002_10uF
pins: 1 P, 2 N
text: +

## 865060543003
designator C?, comment 22uF
WCAP-ASLL Aluminum Electrolytic Capacitor, V-Chip, SMT, D6.3 x H5.5mm, 22uF, 35V; Manufacturer Part Number: 865060543003; Manufacturer: Wurth Elektronik; Capacitance Tolerance: +/-20%; Dissipation Factor: 14%; Endurance: 2000h; Leakage Current: 7.7uA; Ripple Current: 230mA; Technical Reference: ASED055220M035DVCTBB000; Category: Aluminum Electrolytic Capacitors; Match Code: WCAP-ASLL; ComponentLink1Description: Website Link; ComponentLink1URL: https://www.we-online.com/redexpert/article/865060543003?ad; ComponentLink2Description: Datasheet Link; ComponentLink2URL: https://www.we-online.com/redexpert/spec/865060543003?ad; Mount: Surface Mount; Operating Temperature Max: 105°C; Operating Temperature Min: -55°C; Packaging: Tape and Reel; Height: 5.5mm; Diameter: 6.3mm; Capacitance: 22uF; Rated Voltage (DC): 35V
footprint WCAP-ASLL_D6.3H5.5
simulation model 865060543003_22uF
pins: 1 P, 2 N
text: +

## 865060543004
designator C?, comment 33uF
WCAP-ASLL Aluminum Electrolytic Capacitor, V-Chip, SMT, D6.3 x H5.5mm, 33uF, 35V; Manufacturer Part Number: 865060543004; Manufacturer: Wurth Elektronik; Capacitance Tolerance: +/-20%; Dissipation Factor: 14%; Endurance: 2000h; Leakage Current: 11.55uA; Ripple Current: 240mA; Technical Reference: ASED055330M035DVCTBB000; Category: Aluminum Electrolytic Capacitors; Match Code: WCAP-ASLL; ComponentLink1Description: Website Link; ComponentLink1URL: https://www.we-online.com/redexpert/article/865060543004?ad; ComponentLink2Description: Datasheet Link; ComponentLink2URL: https://www.we-online.com/redexpert/spec/865060543004?ad; Mount: Surface Mount; Operating Temperature Max: 105°C; Operating Temperature Min: -55°C; Packaging: Tape and Reel; Height: 5.5mm; Diameter: 6.3mm; Capacitance: 33uF; Rated Voltage (DC): 35V
footprint WCAP-ASLL_D6.3H5.5
simulation model 865060543004_33uF
pins: 1 P, 2 N
text: +